# Altium footprint library Pod3.PcbLib: 12 footprints
Each footprint in its own frame and in the unit in brackets; x right, y up, seen from the top. Pads: shape width x height; smd on the part's side, far side on the other; paste and mask are expansions set on the pad; w line width, h text height; cw(c..) or ccw(c..) is an arc to the next point about the centre after c.
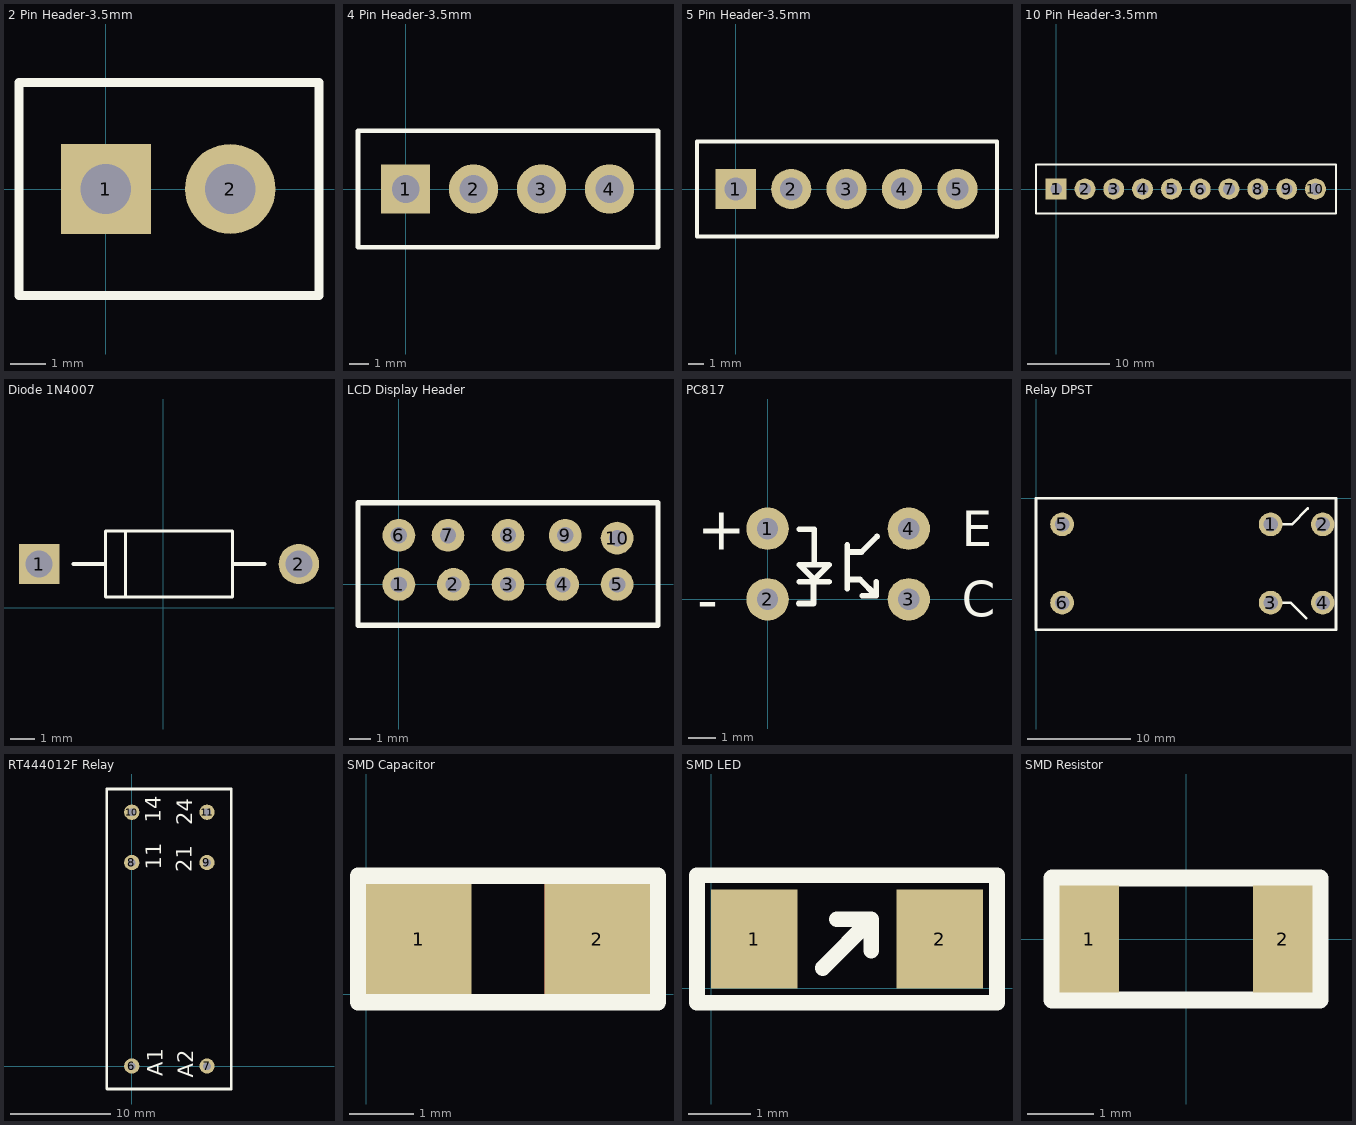
[diagram p0: the footprints below, top view; thin cyan lines are the x and y axes]

## 2 Pin Header-3.5mm [mil]
pads (2):
  rect 100x100 hole 56: 1(0,0)
  round 100 hole 56: 2(137.79,0)
Top Overlay:
  lines w10: -96.46,-118.11 -96.46,118.11 236.22,118.11 236.22,-118.11 -96.46,-118.11

## 4 Pin Header-3.5mm [mil]
pads (4):
  rect 100x100 hole 56: 1(0,0)
  round 100 hole 56: 2(137.79,0) 3(275.59,0) 4(413.38,0)
Top Overlay:
  lines w10: -96.46,-118.11 -96.46,118.11 511.81,118.11 511.81,-118.11 -96.46,-118.11

## 5 Pin Header-3.5mm [mil]
pads (5):
  rect 100x100 hole 56: 1(0,0)
  round 100 hole 56: 2(137.79,0) 3(275.59,0) 4(413.38,0) 5(551.18,0)
Top Overlay:
  lines w10: -96.46,-118.11 -96.46,118.11 649.61,118.11 649.61,-118.11 -96.46,-118.11

## 10 Pin Header-3.5mm [mil]
pads (10):
  rect 100x100 hole 56: 1(0,0)
  round 100 hole 56: 2(137.79,0) 3(275.59,0) 4(413.38,0) 5(551.18,0) 6(688.98,0) 7(826.77,0) 8(964.57,0) 9(1102.36,0) 10(1240.15,0)
Top Overlay:
  lines w10: -96.46,-118.11 1338.58,-118.11 1338.58,118.11 -96.46,118.11 -96.46,-118.11

## Diode 1N4007 [mm] "Diode 1N4007"
pads (2):
  rect 1.65x1.65 hole 1.1: 1(-5.071,1.778)
  round 1.65 hole 1.1: 2(5.529,1.778)
Top Overlay:
  lines w0.127: -1.546,0.428 -1.546,3.128 ; -1.546,0.428 2.829,0.428 2.829,1.778 2.829,3.128 -1.546,3.128 ; -1.546,0.428 -2.371,0.428 -2.371,1.778 -2.371,3.128 -1.546,3.128
  lines w0.152: -3.671,1.778 -2.371,1.778 ; 2.829,1.778 4.129,1.778

## LCD Display Header [mil]
pads (10):
  round 60 hole 30: 1(0,0) 2(100,0) 3(200,0) 4(300,0) 5(400,0) 6(0,90) 7(90,90) 8(200,90) 9(305,90) 10(400,85)
Top Overlay:
  lines w10: -75,-75 -75,150 475,150 475,-75 -75,-75

## PC817 [mil] "Opto-Coupler"
pads (4):
  round 60 hole 30: 1(0,100) 2(0,0) 3(200,0) 4(200,100)
Top Overlay:
  lines w8: 44,-6 65,-6 65,25 ; 45,25 87,25 ; 45,99 66,99 66,49 ; 69,25 45,49 87,49 69,31 ; 113,15 113,77 ; 113,28 131,28 154,5 ; 113,67 133,67 155,89 ; 134,5 154,5 ; 154,25 154,5
  text "C" at 275,-25 h50
  text "E" at 275,75 h50
  text "-" at -100,-30 h60
  text "+" at -100,70 h60

## Relay DPST [mil]
pads (6):
  round 90 hole 55: 1(892.91,-99.21) 2(1091.34,-99.21) 3(892.91,-396.85) 4(1091.34,-396.85) 5(99.21,-99.21) 6(99.21,-396.85)
Top Overlay:
  lines w10: 892.91,-396.85 968.85,-396.85 1029,-457 ; 892.91,-99.21 973.79,-99.21 1034,-39 ; 0,-500 0,0 1141.73,0 1141.73,-500 0,-500

## RT444012F Relay [mil]
pads (6):
  round 60 hole 30: 6(0,0) 7(295.28,0) 8(0,799) 9(295,799) 10(0,997) 11(295.28,997)
Top Overlay:
  lines w10: -98,-89 -97,-90 -53,-90 349,-90 390,-90 390,1088 269.25,1088 25.75,1088 -89,1088 -98,1088 -98,-89
  text "A1" at 121,-39 h60
  text "A2" at 241,-46 h60
  text "11" at 115,771 h60
  text "21" at 236,761 h60
  text "14" at 113,955 h60
  text "24" at 238,945 h60

## SMD Capacitor [mil]
pads (2):
  rect 65x68 all layers, no hole: 1(32.5,34) 2(142.5,34)
Top Layer:
  rectangle: 110,0 175,68
Top Overlay:
  lines w10: -5,-5 180,-5 180,73 -5,73 -5,-5

## SMD LED [mil]
pads (2):
  rect 55x63 all layers, no hole: 1(27.56,31.5) 2(145.56,31.5)
Top Overlay:
  lines w10: 71,13 102,44 ; 80,44 102,44 ; 102,24 102,44 ; -9,-9 182,-9 182,72 -9,72 -9,-9

## SMD Resistor [mil]
pads (2):
  rect 35x63 all layers, no hole: 1(-57,0) 2(57,0)
Top Overlay:
  lines w10: -79,-36 79,-36 79,36 -79,36 -79,-36